# EAGLE library part MBI5026 (library mbi5026)
MBI5026 16-bit Constant Current LED Sink Driver
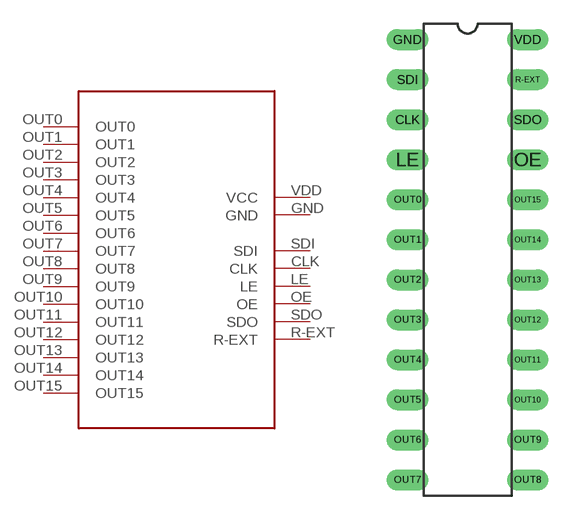
[diagram p0: symbol with the pads of MBI5026; footprint MBI5026]

Designator prefix -

## MBI5026  [MBI5026]
CLK  CLK
GND  GND
LE  LE
OE  OE
OUT0  OUT0
OUT1  OUT1
OUT2  OUT2
OUT3  OUT3
OUT4  OUT4
OUT5  OUT5
OUT6  OUT6
OUT7  OUT7
OUT8  OUT8
OUT9  OUT9
OUT10  OUT10
OUT11  OUT11
OUT12  OUT12
OUT13  OUT13
OUT14  OUT14
OUT15  OUT15
R-EXT  R-EXT
SDI  SDI
SDO  SDO
VDD  VCC

## Footprint MBI5026 (pad centres in mm)
Dual In Line Package MBI5026 16-bit Constant Current LED Sink Driver
drill 0.813 long: CLK -3.81,8.89; GND -3.81,13.97; LE -3.81,6.35; OE 3.81,6.35; OUT0 -3.81,3.81; OUT1 -3.81,1.27; OUT2 -3.81,-1.27; OUT3 -3.81,-3.81; OUT4 -3.81,-6.35; OUT5 -3.81,-8.89; OUT6 -3.81,-11.43; OUT7 -3.81,-13.97; OUT8 3.81,-13.97; OUT9 3.81,-11.43; OUT10 3.81,-8.89; OUT11 3.81,-6.35; OUT12 3.81,-3.81; OUT13 3.81,-1.27; OUT14 3.81,1.27; OUT15 3.81,3.81; R-EXT 3.81,11.43; SDI -3.81,11.43; SDO 3.81,8.89; VDD 3.81,13.97